# Altium footprint library TE TP 0805.PCBLIB: 1 footprints
Each footprint in its own frame and in the unit in brackets; x right, y up, seen from the top. Pads: shape width x height; smd on the part's side, far side on the other; paste and mask are expansions set on the pad; w line width, h text height; cw(c..) or ccw(c..) is an arc to the next point about the centre after c.
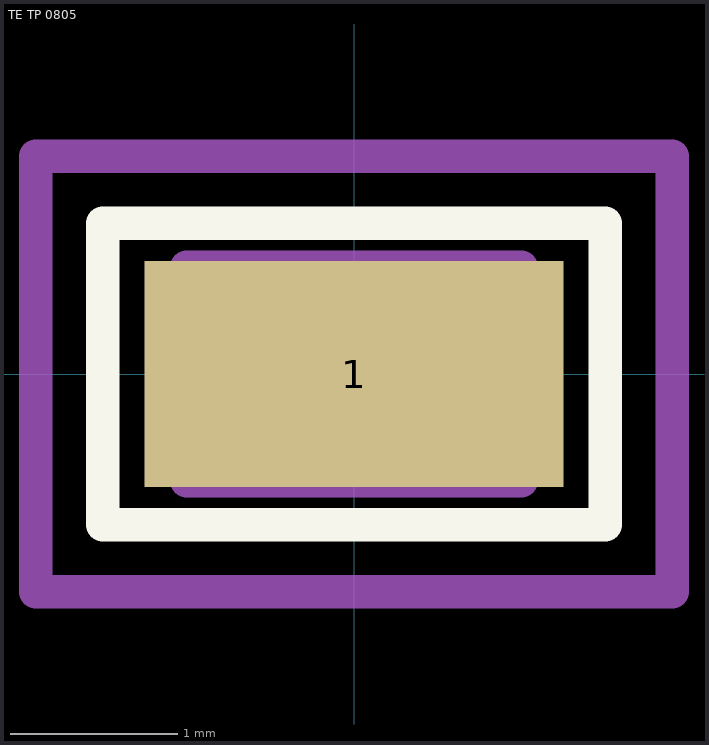
[diagram p0: the footprint, top view; thin cyan lines are the x and y axes]

## TE TP 0805 [mm]
height 1.45
pads (1):
  rect 2.5x1.35 smd: 1(0,0)
Top Overlay:
  lines w0.2: -1.5,-0.9 1.5,-0.9 1.5,0.9 -1.5,0.9 -1.5,-0.9
Mechanical 1:
  lines w0.2: -1,-0.637 -1,0.638 1,0.638 1,-0.637 -1,-0.637
Mechanical 15:
  lines w0.2: -0.5,0 0.5,0 ; 0,-0.5 0,0.5 ; -1.9,-1.3 -1.9,1.3 1.9,1.3 1.9,-1.3 -1.9,-1.3
3D body "TE RCT-0C.STEP": height 1.48, standoff 0.03, extent -1,-0.637 1,0.638